# Altium footprint library 接插件.PCBLIB: 113 footprints (part 8 of 8)
Each footprint in its own frame and in the unit in brackets; x right, y up, seen from the top. Pads: shape width x height; smd on the part's side, far side on the other; paste and mask are expansions set on the pad; w line width, h text height; cw(c..) or ccw(c..) is an arc to the next point about the centre after c.
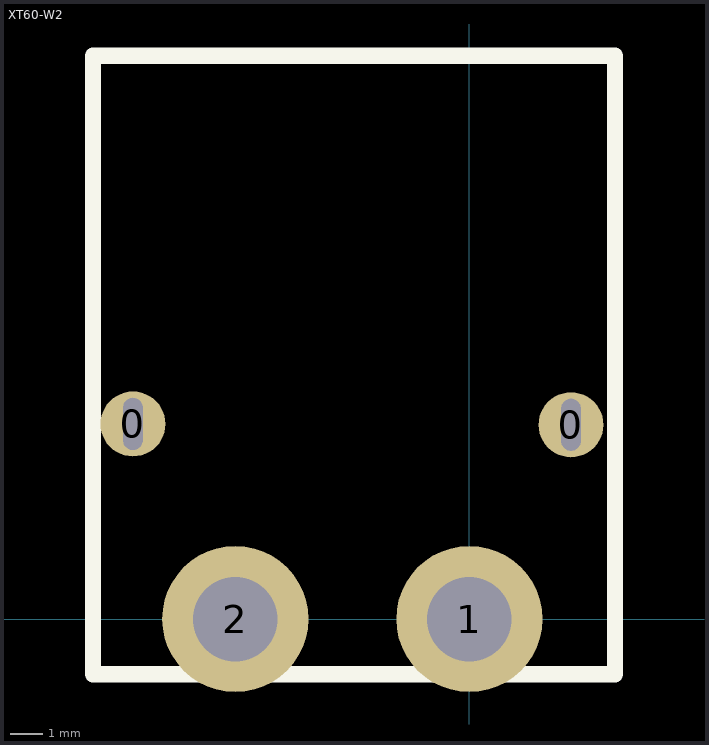
[diagram p7: the footprint, top view; thin cyan lines are the x and y axes]

## XT60-W2 [mm]
pads (4):
  round 2 hole 0.6 slot 1.6 at 90 deg: 0(-10.35,6) 0(3.125,5.975)
  round 4.5 hole 2.6: 1(0,0) 2(-7.2,0)
TopOverlay:
  lines w0.5: -11.575,-1.7 -11.575,17.325 4.475,17.325 4.475,-1.7 -11.575,-1.7